# EAGLE library part 929974-01-06-RK (library Magister-Libraries)
Conn Socket Strip SKT 6 POS 2.54mm Solder ST Thru-Hole Source: Datasheet <https://www.arrow.com/en/products/929974-01-06-rk/3m>
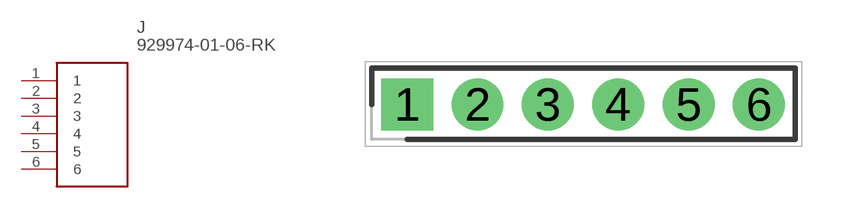
[diagram p14: symbol with the pads of RHDR6W76P0X254_1X6_1524X254X82; footprint RHDR6W76P0X254_1X6_1524X254X82]

Designator prefix J

## 929974-01-06-RK (DESCRIPTION: Conn Socket Strip SKT 6 POS 2.54mm Solder ST Thru-Hole; HEIGHT: 8.26mm; MANUFACTURER_NAME: 3M; MANUFACTURER_PART_NUMBER: 929974-01-06-RK; MOUSER_PART_NUMBER: 517-974-01-06-RK; MOUSER_PRICE-STOCK: https://www.mouser.co.uk/ProductDetail/3M-Electronic-Solutions-Division/929974-01-06-RK?qs=3mbqm78NkmdJoLL7KUCHHg%3D%3D)  [RHDR6W76P0X254_1X6_1524X254X82]
1  1
2  2
3  3
4  4
5  5
6  6

## Footprint RHDR6W76P0X254_1X6_1524X254X82 (pad centres in mm)
929974-01-06-RK
drill 1.25 pad 1.875 square: 1 0,0
drill 1.25 pad 1.875: 2 2.54,0; 3 5.08,0; 4 7.62,0; 5 10.16,0; 6 12.7,0